# Altium schematic symbol library NUVOTON_M058S_LIBRARY_Library.SchLib: 5 symbols
Pins are listed as number, name and electrical type; pins without a type are passive.

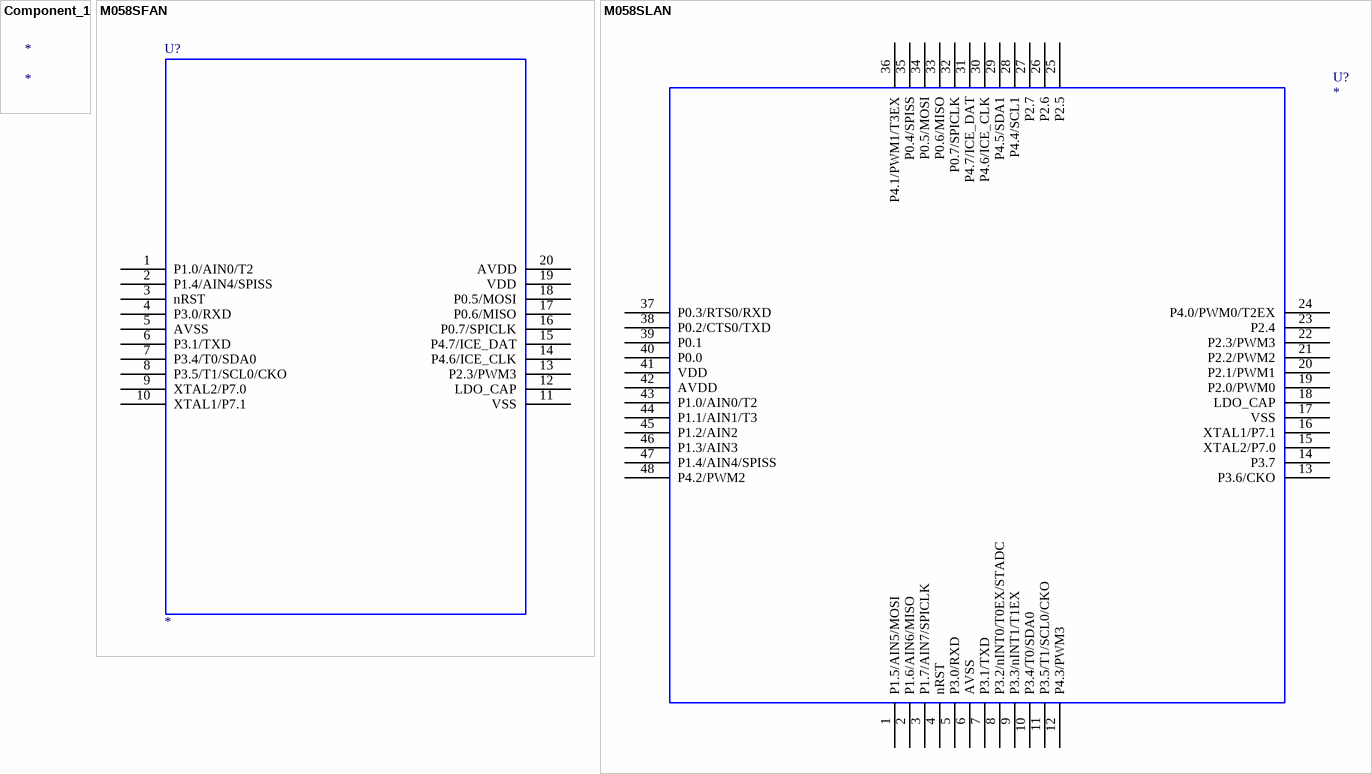
[diagram p0: symbols Component_1 to M058SLAN]

## Component_1
designator *

## M058SFAN
designator U?
OriginalSymbolOrigin: (0,0)
footprint MCU_TSSOP_20
pins: 1 P1.0/AIN0/T2, 2 P1.4/AIN4/SPISS, 3 nRST, 4 P3.0/RXD, 5 AVSS, 6 P3.1/TXD, 7 P3.4/T0/SDA0, 8 P3.5/T1/SCL0/CKO, 9 XTAL2/P7.0, 10 XTAL1/P7.1, 11 VSS, 12 LDO_CAP, 13 P2.3/PWM3, 14 P4.6/ICE_CLK, 15 P4.7/ICE_DAT, 16 P0.7/SPICLK, 17 P0.6/MISO, 18 P0.5/MOSI, 19 VDD, 20 AVDD

## M058SLAN
designator U?
OriginalSymbolOrigin: (0,0)
footprint MCU_LQFP_48
pins: 1 P1.5/AIN5/MOSI, 2 P1.6/AIN6/MISO, 3 P1.7/AIN7/SPICLK, 4 nRST, 5 P3.0/RXD, 6 AVSS, 7 P3.1/TXD, 8 P3.2/nINT0/T0EX/STADC, 9 P3.3/nINT1/T1EX, 10 P3.4/T0/SDA0, 11 P3.5/T1/SCL0/CKO, 12 P4.3/PWM3, 13 P3.6/CKO, 14 P3.7, 15 XTAL2/P7.0, 16 XTAL1/P7.1, 17 VSS, 18 LDO_CAP, 19 P2.0/PWM0, 20 P2.1/PWM1, 21 P2.2/PWM2, 22 P2.3/PWM3, 23 P2.4, 24 P4.0/PWM0/T2EX, 25 P2.5, 26 P2.6, 27 P2.7, 28 P4.4/SCL1, 29 P4.5/SDA1, 30 P4.6/ICE_CLK, 31 P4.7/ICE_DAT, 32 P0.7/SPICLK, 33 P0.6/MISO, 34 P0.5/MOSI, 35 P0.4/SPISS, 36 P4.1/PWM1/T3EX, 37 P0.3/RTS0/RXD, 38 P0.2/CTS0/TXD, 39 P0.1, 40 P0.0, 41 VDD, 42 AVDD, 43 P1.0/AIN0/T2, 44 P1.1/AIN1/T3, 45 P1.2/AIN2, 46 P1.3/AIN3, 47 P1.4/AIN4/SPISS, 48 P4.2/PWM2

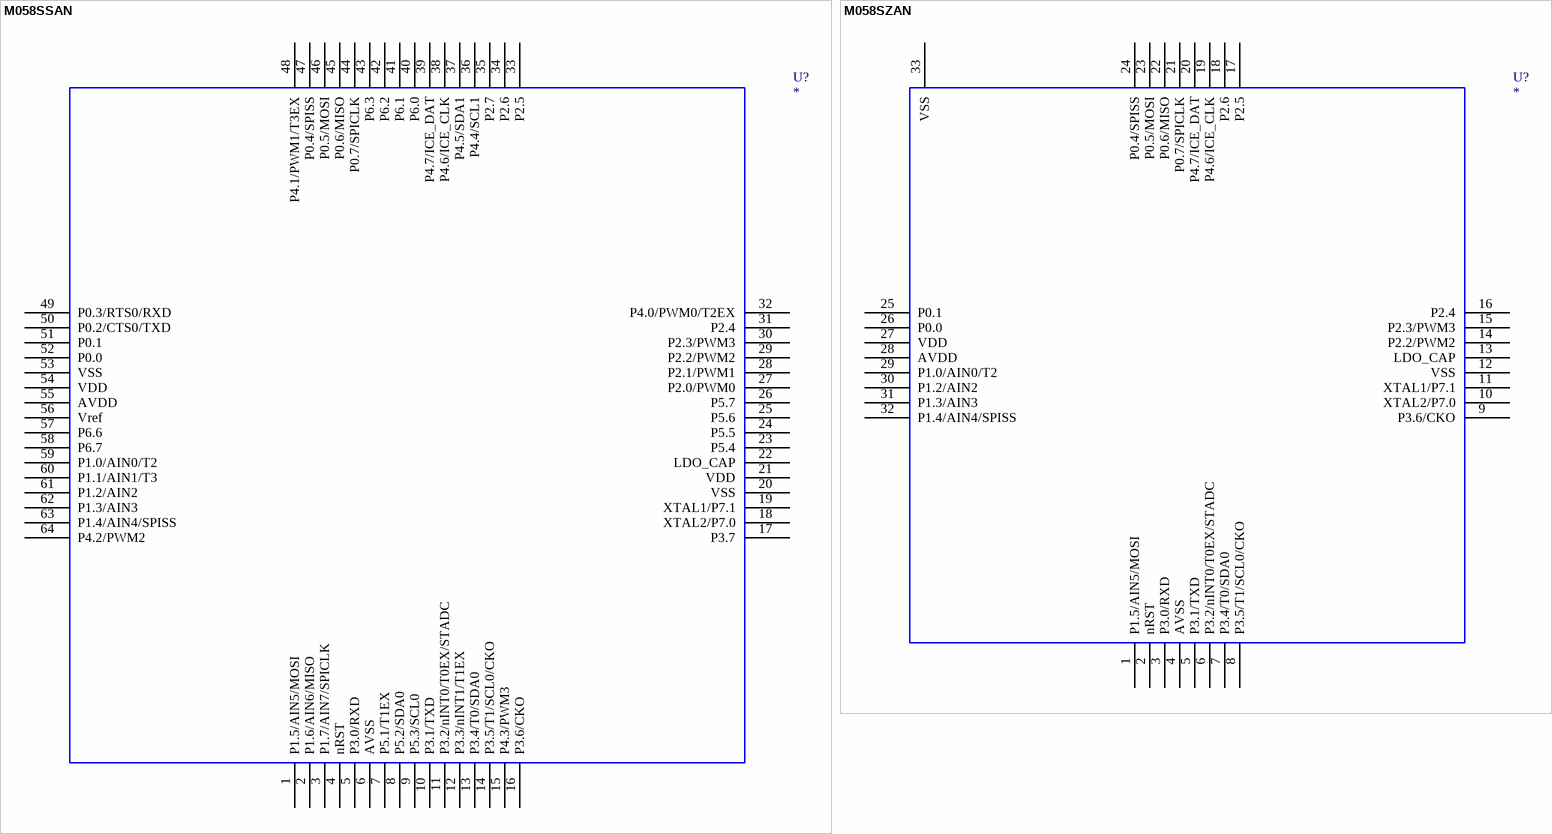
[diagram p1: symbols M058SSAN to M058SZAN]

## M058SSAN
designator U?
OriginalSymbolOrigin: (0,0)
footprint MCU_LQFP_64_7x7
pins: 1 P1.5/AIN5/MOSI, 2 P1.6/AIN6/MISO, 3 P1.7/AIN7/SPICLK, 4 nRST, 5 P3.0/RXD, 6 AVSS, 7 P5.1/T1EX, 8 P5.2/SDA0, 9 P5.3/SCL0, 10 P3.1/TXD, 11 P3.2/nINT0/T0EX/STADC, 12 P3.3/nINT1/T1EX, 13 P3.4/T0/SDA0, 14 P3.5/T1/SCL0/CKO, 15 P4.3/PWM3, 16 P3.6/CKO, 17 P3.7, 18 XTAL2/P7.0, 19 XTAL1/P7.1, 20 VSS, 21 VDD, 22 LDO_CAP, 23 P5.4, 24 P5.5, 25 P5.6, 26 P5.7, 27 P2.0/PWM0, 28 P2.1/PWM1, 29 P2.2/PWM2, 30 P2.3/PWM3, 31 P2.4, 32 P4.0/PWM0/T2EX, 33 P2.5, 34 P2.6, 35 P2.7, 36 P4.4/SCL1, 37 P4.5/SDA1, 38 P4.6/ICE_CLK, 39 P4.7/ICE_DAT, 40 P6.0, 41 P6.1, 42 P6.2, 43 P6.3, 44 P0.7/SPICLK, 45 P0.6/MISO, 46 P0.5/MOSI, 47 P0.4/SPISS, 48 P4.1/PWM1/T3EX, 49 P0.3/RTS0/RXD, 50 P0.2/CTS0/TXD, 51 P0.1, 52 P0.0, 53 VSS, 54 VDD, 55 AVDD, 56 Vref, 57 P6.6, 58 P6.7, 59 P1.0/AIN0/T2, 60 P1.1/AIN1/T3, 61 P1.2/AIN2, 62 P1.3/AIN3, 63 P1.4/AIN4/SPISS, 64 P4.2/PWM2

## M058SZAN
designator U?
OriginalSymbolOrigin: (0,0)
footprint MCU_QFN_33_5x5
pins: 1 P1.5/AIN5/MOSI, 2 nRST, 3 P3.0/RXD, 4 AVSS, 5 P3.1/TXD, 6 P3.2/nINT0/T0EX/STADC, 7 P3.4/T0/SDA0, 8 P3.5/T1/SCL0/CKO, 9 P3.6/CKO, 10 XTAL2/P7.0, 11 XTAL1/P7.1, 12 VSS, 13 LDO_CAP, 14 P2.2/PWM2, 15 P2.3/PWM3, 16 P2.4, 17 P2.5, 18 P2.6, 19 P4.6/ICE_CLK, 20 P4.7/ICE_DAT, 21 P0.7/SPICLK, 22 P0.6/MISO, 23 P0.5/MOSI, 24 P0.4/SPISS, 25 P0.1, 26 P0.0, 27 VDD, 28 AVDD, 29 P1.0/AIN0/T2, 30 P1.2/AIN2, 31 P1.3/AIN3, 32 P1.4/AIN4/SPISS, 33 VSS